# EAGLE library part TLC59711 (library LEDdriver)
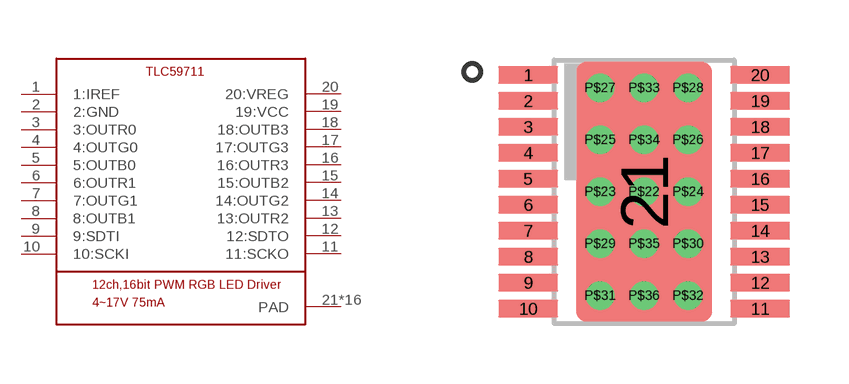
[diagram p0: symbol with the pads of HTSSOP-20; footprint HTSSOP-20]

Designator prefix -

## TLC59711  [HTSSOP-20]
1  1:IREF
2  2:GND  sup
3  3:OUTR0  out
4  4:OUTG0  out
5  5:OUTB0  out
6  6:OUTR1  out
7  7:OUTG1  out
8  8:OUTB1  out
9  9:SDTI  in
10  10:SCKI  in
11  11:SCKO  out
12  12:SDTO  out
13  13:OUTR2  out
14  14:OUTG2  out
15  15:OUTB2  out
16  16:OUTR3  out
17  17:OUTG3  out
18  18:OUTB3  out
19  19:VCC  sup
20  20:VREG
21  PAD  nc
P$22  PAD  nc
P$23  PAD  nc
P$24  PAD  nc
P$25  PAD  nc
P$26  PAD  nc
P$27  PAD  nc
P$28  PAD  nc
P$29  PAD  nc
P$30  PAD  nc
P$31  PAD  nc
P$32  PAD  nc
P$33  PAD  nc
P$34  PAD  nc
P$35  PAD  nc
P$36  PAD  nc

## Footprint HTSSOP-20 (pad centres in mm)
smd 1.5 x 0.45: 1 -2.9,2.925; 2 -2.9,2.275; 3 -2.9,1.625; 4 -2.9,0.975; 5 -2.9,0.325; 6 -2.9,-0.325; 7 -2.9,-0.975; 8 -2.9,-1.625; 9 -2.9,-2.275; 10 -2.9,-2.925; 11 2.9,-2.925; 12 2.9,-2.275; 13 2.9,-1.625; 14 2.9,-0.975; 15 2.9,-0.325; 16 2.9,0.325; 17 2.9,0.975; 18 2.9,1.625; 19 2.9,2.275; 20 2.9,2.925
smd 3.4 x 6.5: 21 0,0
drill 0.2 pad 0.305: P$22 0,0; P$23 -1.1,0; P$24 1.1,0; P$25 -1.1,1.3; P$26 1.1,1.3; P$27 -1.1,2.6; P$28 1.1,2.6; P$29 -1.1,-1.3; P$30 1.1,-1.3; P$31 -1.1,-2.6; P$32 1.1,-2.6; P$33 0,2.6; P$34 0,1.3; P$35 0,-1.3; P$36 0,-2.6